# Altium footprint library Capacitor.PcbLib: 34 footprints (part 3 of 3)
Each footprint in its own frame and in the unit in brackets; x right, y up, seen from the top. Pads: shape width x height; smd on the part's side, far side on the other; paste and mask are expansions set on the pad; w line width, h text height; cw(c..) or ccw(c..) is an arc to the next point about the centre after c.
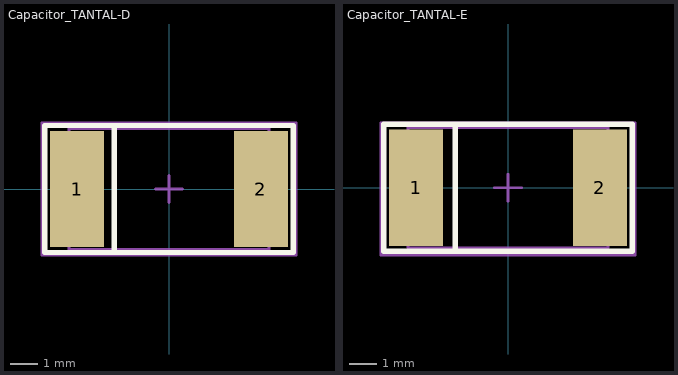
[diagram p2: the footprints below, top view; thin cyan lines are the x and y axes]

## Capacitor_TANTAL-D [mm]
height 2.9
pads (2):
  rect 2x4.3 smd: 1(-3.4,0) 2(3.4,0)
Top Overlay:
  lines w0.2: -2.025,-2.35 -2.025,2.35 ; -4.6,-2.35 4.6,-2.35 4.6,2.35 -4.6,2.35 -4.6,-2.35
Mechanical 1:
  lines w0.1: -2.025,-2.225 -2.025,2.225 ; -3.7,-2.225 -3.7,2.225 3.7,2.225 3.7,-2.225 -3.7,-2.225
Mechanical 15:
  lines w0.1: -0.5,0 0.5,0 ; 0,-0.5 0,0.5 ; -4.7,-2.45 -4.7,2.45 4.7,2.45 4.7,-2.45 -4.7,-2.45
3D body "User Library-AVX_D_CASE.STEP": height 3.01, standoff 0, extent -3.7,-2.225 3.7,2.225

## Capacitor_TANTAL-E [mm]
height 2.9
pads (2):
  rect 2x4.3 smd: 1(-3.4,0) 2(3.4,0)
Top Overlay:
  lines w0.2: -1.95,-2.325 -1.95,2.325 ; -4.6,-2.35 4.6,-2.35 4.6,2.35 -4.6,2.35 -4.6,-2.35
Mechanical 1:
  lines w0.1: -1.95,-2.225 -1.95,2.225 ; -3.7,-2.225 3.7,-2.225 3.7,2.225 -3.7,2.225 -3.7,-2.225
Mechanical 15:
  lines w0.1: -0.5,0 0.5,0 ; 0,-0.5 0,0.5 ; -4.7,-2.5 -4.7,2.4 4.7,2.4 4.7,-2.5 -4.7,-2.5
3D body "User Library-AVX_E_CASE.STEP": height 4.2, standoff 0, extent -3.7,-2.225 3.7,2.225